# Altium schematic symbol library Module.SchLib: 2 symbols
Pins are listed as number, name and electrical type; pins without a type are passive.

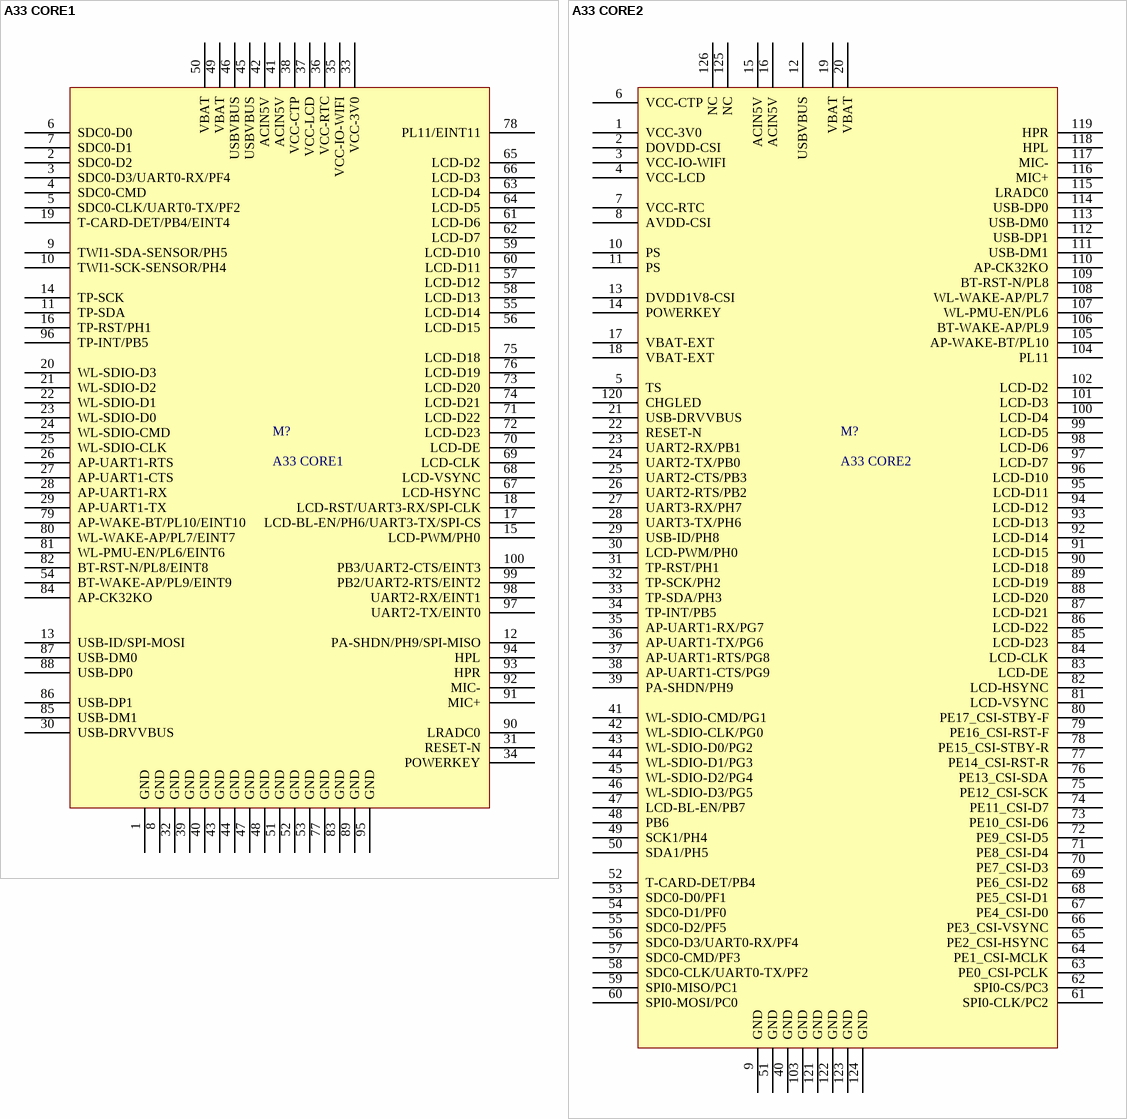
[diagram p0: symbols A33 CORE1 to A33 CORE2]

## A33 CORE1
designator M?
pins: 1 GND, 2 SDC0-D2, 3 SDC0-D3/UART0-RX/PF4, 4 SDC0-CMD, 5 SDC0-CLK/UART0-TX/PF2, 6 SDC0-D0, 7 SDC0-D1, 8 GND, 9 TWI1-SDA-SENSOR/PH5, 10 TWI1-SCK-SENSOR/PH4, 11 TP-SDA, 12 PA-SHDN/PH9/SPI-MISO, 13 USB-ID/SPI-MOSI, 14 TP-SCK, 15 LCD-PWM/PH0, 16 TP-RST/PH1, 17 LCD-BL-EN/PH6/UART3-TX/SPI-CS, 18 LCD-RST/UART3-RX/SPI-CLK, 19 T-CARD-DET/PB4/EINT4, 20 WL-SDIO-D3, 21 WL-SDIO-D2, 22 WL-SDIO-D1, 23 WL-SDIO-D0, 24 WL-SDIO-CMD, 25 WL-SDIO-CLK, 26 AP-UART1-RTS, 27 AP-UART1-CTS, 28 AP-UART1-RX, 29 AP-UART1-TX, 30 USB-DRVVBUS, 31 RESET-N, 32 GND, 33 VCC-3V0, 34 POWERKEY, 35 VCC-IO-WIFI, 36 VCC-RTC, 37 VCC-LCD, 38 VCC-CTP, 39 GND, 40 GND, 41 ACIN5V, 42 ACIN5V, 43 GND, 44 GND, 45 USBVBUS, 46 USBVBUS, 47 GND, 48 GND, 49 VBAT, 50 VBAT, 51 GND, 52 GND, 53 GND, 54 BT-WAKE-AP/PL9/EINT9, 55 LCD-D14, 56 LCD-D15, 57 LCD-D12, 58 LCD-D13, 59 LCD-D10, 60 LCD-D11, 61 LCD-D6, 62 LCD-D7, 63 LCD-D4, 64 LCD-D5, 65 LCD-D2, 66 LCD-D3, 67 LCD-HSYNC, 68 LCD-VSYNC, 69 LCD-CLK, 70 LCD-DE, 71 LCD-D22, 72 LCD-D23, 73 LCD-D20, 74 LCD-D21, 75 LCD-D18, 76 LCD-D19, 77 GND, 78 PL11/EINT11, 79 AP-WAKE-BT/PL10/EINT10, 80 WL-WAKE-AP/PL7/EINT7, 81 WL-PMU-EN/PL6/EINT6, 82 BT-RST-N/PL8/EINT8, 83 GND, 84 AP-CK32KO, 85 USB-DM1, 86 USB-DP1, 87 USB-DM0, 88 USB-DP0, 89 GND, 90 LRADC0, 91 MIC+, 92 MIC-, 93 HPR, 94 HPL, 95 GND, 96 TP-INT/PB5, 97 UART2-TX/EINT0, 98 UART2-RX/EINT1, 99 PB2/UART2-RTS/EINT2, 100 PB3/UART2-CTS/EINT3

## A33 CORE2
designator M?
footprint A33-CORE2 (Footprint not found)
pins: 1 VCC-3V0, 2 DOVDD-CSI, 3 VCC-IO-WIFI, 4 VCC-LCD, 5 TS, 6 VCC-CTP, 7 VCC-RTC, 8 AVDD-CSI, 9 GND, 10 PS, 11 PS, 12 USBVBUS, 13 DVDD1V8-CSI, 14 POWERKEY, 15 ACIN5V, 16 ACIN5V, 17 VBAT-EXT, 18 VBAT-EXT, 19 VBAT, 20 VBAT, 21 USB-DRVVBUS, 22 RESET-N, 23 UART2-RX/PB1, 24 UART2-TX/PB0, 25 UART2-CTS/PB3, 26 UART2-RTS/PB2, 27 UART3-RX/PH7, 28 UART3-TX/PH6, 29 USB-ID/PH8, 30 LCD-PWM/PH0, 31 TP-RST/PH1, 32 TP-SCK/PH2, 33 TP-SDA/PH3, 34 TP-INT/PB5, 35 AP-UART1-RX/PG7, 36 AP-UART1-TX/PG6, 37 AP-UART1-RTS/PG8, 38 AP-UART1-CTS/PG9, 39 PA-SHDN/PH9, 40 GND, 41 WL-SDIO-CMD/PG1, 42 WL-SDIO-CLK/PG0, 43 WL-SDIO-D0/PG2, 44 WL-SDIO-D1/PG3, 45 WL-SDIO-D2/PG4, 46 WL-SDIO-D3/PG5, 47 LCD-BL-EN/PB7, 48 PB6, 49 SCK1/PH4, 50 SDA1/PH5, 51 GND, 52 T-CARD-DET/PB4, 53 SDC0-D0/PF1, 54 SDC0-D1/PF0, 55 SDC0-D2/PF5, 56 SDC0-D3/UART0-RX/PF4, 57 SDC0-CMD/PF3, 58 SDC0-CLK/UART0-TX/PF2, 59 SPI0-MISO/PC1, 60 SPI0-MOSI/PC0, 61 SPI0-CLK/PC2, 62 SPI0-CS/PC3, 63 PE0_CSI-PCLK, 64 PE1_CSI-MCLK, 65 PE2_CSI-HSYNC, 66 PE3_CSI-VSYNC, 67 PE4_CSI-D0, 68 PE5_CSI-D1, 69 PE6_CSI-D2, 70 PE7_CSI-D3, 71 PE8_CSI-D4, 72 PE9_CSI-D5, 73 PE10_CSI-D6, 74 PE11_CSI-D7, 75 PE12_CSI-SCK, 76 PE13_CSI-SDA, 77 PE14_CSI-RST-R, 78 PE15_CSI-STBY-R, 79 PE16_CSI-RST-F, 80 PE17_CSI-STBY-F, 81 LCD-VSYNC, 82 LCD-HSYNC, 83 LCD-DE, 84 LCD-CLK, 85 LCD-D23, 86 LCD-D22, 87 LCD-D21, 88 LCD-D20, 89 LCD-D19, 90 LCD-D18, 91 LCD-D15, 92 LCD-D14, 93 LCD-D13, 94 LCD-D12, 95 LCD-D11, 96 LCD-D10, 97 LCD-D7, 98 LCD-D6, 99 LCD-D5, 100 LCD-D4, 101 LCD-D3, 102 LCD-D2, 103 GND, 104 PL11, 105 AP-WAKE-BT/PL10, 106 BT-WAKE-AP/PL9, 107 WL-PMU-EN/PL6, 108 WL-WAKE-AP/PL7, 109 BT-RST-N/PL8, 110 AP-CK32KO, 111 USB-DM1, 112 USB-DP1, 113 USB-DM0, 114 USB-DP0, 115 LRADC0, 116 MIC+, 117 MIC-, 118 HPL, 119 HPR, 120 CHGLED, 121 GND, 122 GND, 123 GND, 124 GND, 125 NC, 126 NC